# Altium footprint library PCB - CONNECTOR - HIROSE - HIROSE DM3BT-DSF-PEJS.PCBLIB: 1 footprints
Each footprint in its own frame and in the unit in brackets; x right, y up, seen from the top. Pads: shape width x height; smd on the part's side, far side on the other; paste and mask are expansions set on the pad; w line width, h text height; cw(c..) or ccw(c..) is an arc to the next point about the centre after c.
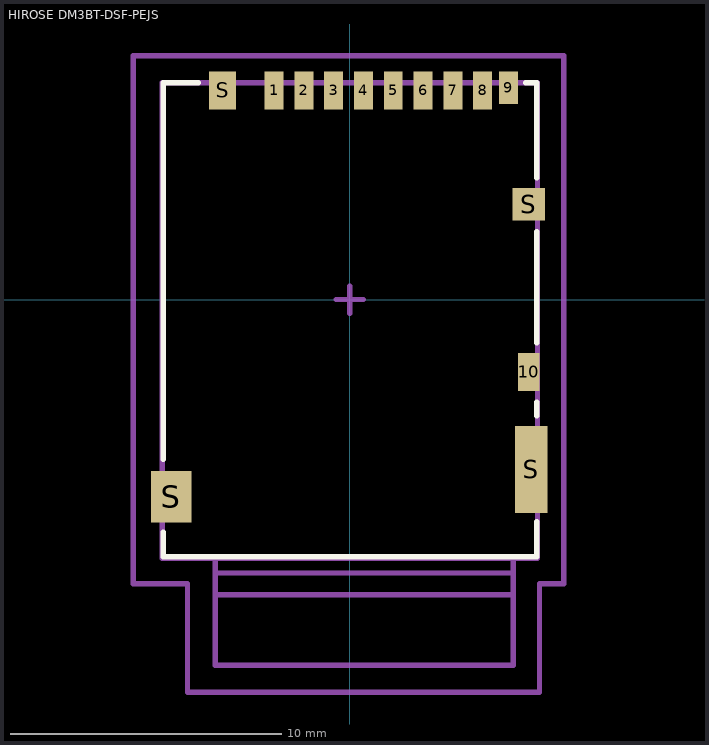
[diagram p0: the footprint, top view; thin cyan lines are the x and y axes]

## HIROSE DM3BT-DSF-PEJS [mm]
height 2.38
pads (14):
  rect 0.7x1.4 smd: 1(-2.8,7.725) 2(-1.7,7.725) 3(-0.6,7.725) 4(0.5,7.725) 5(1.6,7.725) 6(2.7,7.725) 7(3.8,7.725) 8(4.9,7.725)
  rect 0.7x1.2 smd: 9(5.85,7.825)
  rect 0.8x1.4 smd: 10(6.6,-2.675)
  rect 1.5x1.9 smd: S(-6.6,-7.275)
  rect 1x1.4 smd: S(-4.7,7.725)
  rect 1.2x1.2 smd: S(6.6,3.525)
  rect 1.2x3.2 smd: S(6.7,-6.275)
Top Overlay:
  lines w0.2: -6.9,-8.6 -6.9,-9.5 6.9,-9.5 6.9,-8.2 ; -6.9,-5.9 -6.9,8 -5.6,8 ; 6.5,8 6.9,8 6.9,4.5 ; 6.9,-4.3 6.9,-3.8 ; 6.9,-1.6 6.9,2.5
Mechanical 13:
  lines w0.2: -4.975,-10.1 6.025,-10.1 ; -4.975,-9.55 -4.975,-10.9 ; 6.025,-9.55 6.025,-10.9 ; -4.975,-10.9 -4.975,-13.5 6.025,-13.5 6.025,-10.9 ; -4.975,-10.9 6.025,-10.9 ; -6.925,-9.55 -6.925,8 6.925,8 6.925,-9.55 -6.925,-9.55
Mechanical 15:
  lines w0.2: -0.5,0 0.5,0 ; 0,-0.5 0,0.5 ; -8,-10.5 -8,9 7.9,9 7.9,-10.5 7,-10.5 7,-14.5 -6,-14.5 -6,-10.5 -8,-10.5
3D body "Hirose DM3BT-DSF-PEJS.STEP": height 1.83, standoff 0, extent -6.925,-9.55 6.925,8